# Altium footprint library Maks_lib.PcbLib: 26 footprints (part 2 of 2)
Each footprint in its own frame and in the unit in brackets; x right, y up, seen from the top. Pads: shape width x height; smd on the part's side, far side on the other; paste and mask are expansions set on the pad; w line width, h text height; cw(c..) or ccw(c..) is an arc to the next point about the centre after c.
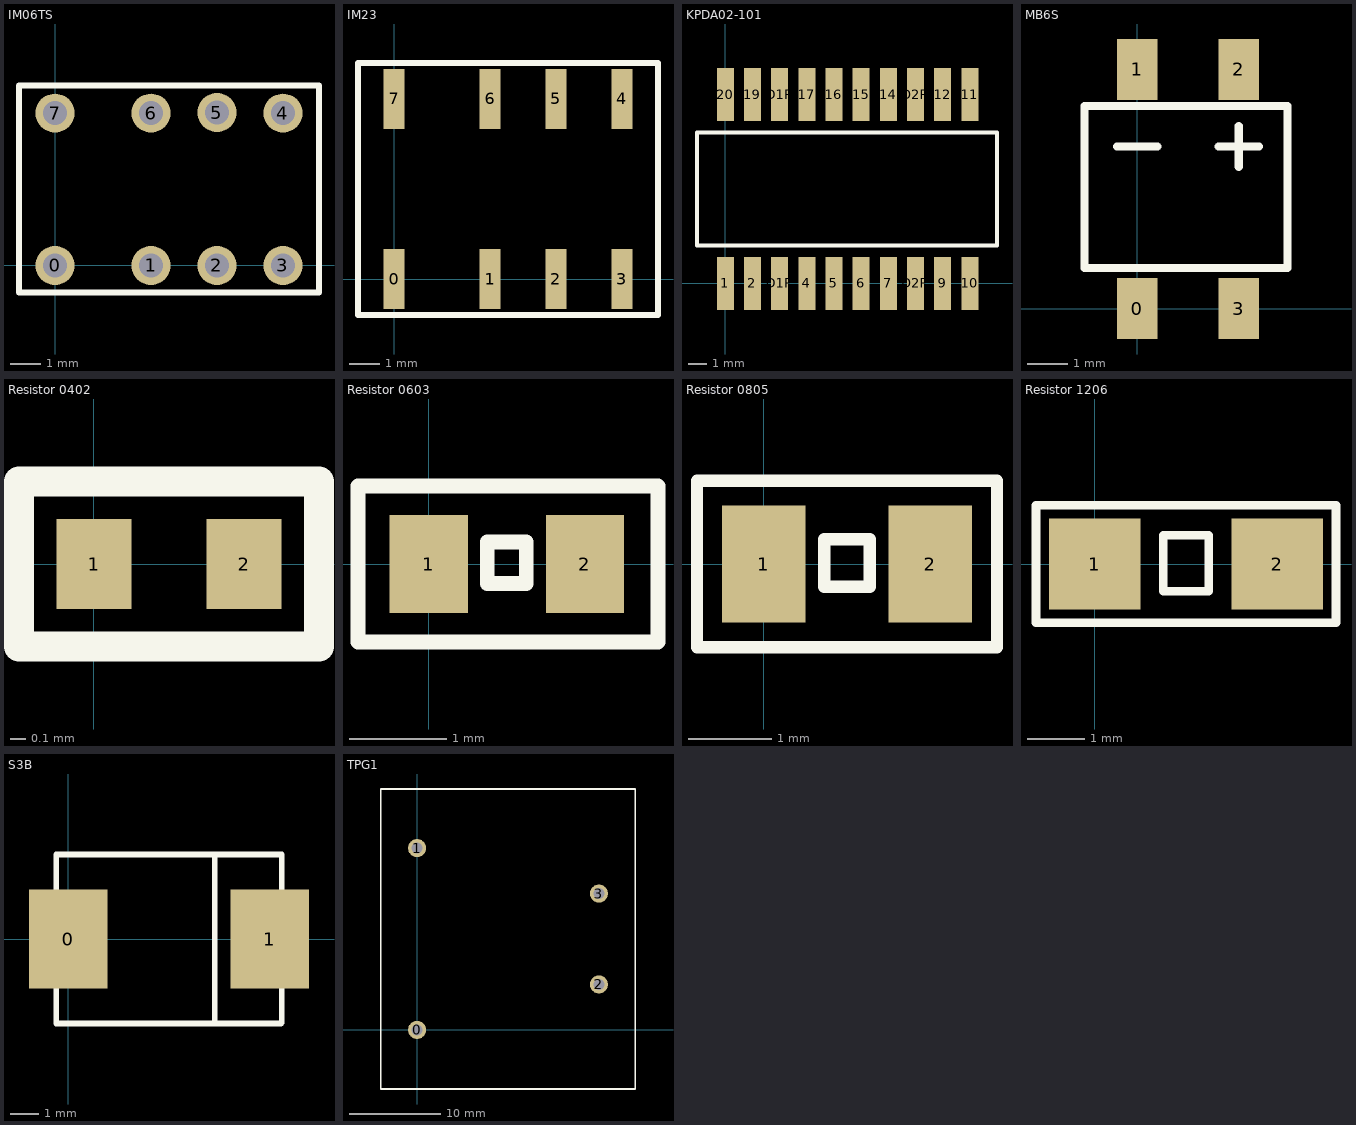
[diagram p1: the footprints below, top view; thin cyan lines are the x and y axes]

## IM06TS [mm]
pads (8):
  round 1.3 hole 0.8: 0(0,0) 1(3.2,0) 2(5.4,0) 3(7.6,0) 4(7.6,5.08) 5(5.4,5.1) 6(3.2,5.08) 7(0,5.08)
Top Overlay:
  lines w0.2: -1.2,-0.9 8.8,-0.9 8.8,6 -1.2,6 -1.2,-0.9

## IM23 [mm]
pads (8):
  rect 0.7x2 smd: 0(0,0) 1(3.2,0) 2(5.4,0) 3(7.6,0) 4(7.6,6) 5(5.4,6) 6(3.2,6) 7(0,6)
Top Overlay:
  lines w0.2: -1.2,-1.2 -1.2,7.2 8.8,7.2 8.8,-1.2 -1.2,-1.2

## KPDA02-101 [mm]
pads (20):
  rect 0.9x2.8 smd: 1(0,0) 2(1.44,0) 4(4.32,0) 5(5.76,0) 6(7.2,0) 7(8.64,0) 9(11.52,0) 10(12.96,0) 11(12.96,10) 12(11.52,10) 14(8.64,10) 15(7.2,10) 16(5.76,10) 17(4.32,10) 19(1.44,10) 20(0,10) D1P(2.88,0) D1P(2.88,10) D2P(10.08,0) D2P(10.08,10)
Top Overlay:
  lines w0.2: -1.5,2 -1.5,8 14.4,8 14.4,2 -1.5,2

## MB6S [mm] "Diode bridge"
pads (4):
  rect 1x1.5 smd: 0(0,0) 1(0,5.9) 2(2.5,5.9) 3(2.5,0)
Top Overlay:
  lines w0.2: -0.5,4 0.5,4 ; 2,4 3,4 ; 2.5,3.5 2.5,4.5 ; -1.3,1 3.7,1 3.7,5 -1.3,5 -1.3,1
3D body: height 2.91, standoff 0, extent -1.275,-0.62 3.675,6.42

## Resistor 0402 [mm]
pads (2):
  rect 0.5x0.6 smd: 1(0,0) 2(1,0)
Top Overlay:
  lines w0.2: -0.5,-0.55 1.5,-0.55 1.5,0.55 -0.5,0.55 -0.5,-0.55
3D body: height 0.46, standoff 0, extent 0,-0.275 0.2,0.275
3D body: height 0.46, standoff 0, extent 0.8,-0.275 1,0.275
3D body: height 0.45, standoff 0, extent 0.025,-0.25 0.975,0.25

## Resistor 0603 [mm]
pads (2):
  rect 0.8x1 smd: 1(0,0) 2(1.6,0)
Top Overlay:
  lines w0.15: -0.725,-0.8 2.35,-0.8 2.35,0.8 -0.725,0.8 -0.725,-0.8 ; 0.6,-0.2 0.6,0.225 1,0.225 1,-0.2 0.6,-0.2
3D body: height 0.46, standoff 0, extent 1.3,-0.45 1.625,0.45
3D body: height 0.46, standoff 0, extent -0.025,-0.45 0.3,0.45
3D body: height 0.45, standoff 0, extent 0,-0.425 1.6,0.425

## Resistor 0805 [mm]
pads (2):
  rect 1x1.4 smd: 1(0,0) 2(2,0)
Top Overlay:
  lines w0.15: -0.8,-1 2.8,-1 2.8,1 -0.8,1 -0.8,-1 ; 0.725,-0.275 0.725,0.3 1.275,0.3 1.275,-0.275 0.725,-0.275
3D body: height 0.4, standoff 0, extent 0.375,-0.625 1.625,0.625
3D body: height 0.41, standoff 0, extent -0.025,-0.65 0.4,0.65
3D body: height 0.41, standoff 0, extent 1.6,-0.65 2.025,0.65

## Resistor 1206 [mm]
pads (2):
  rect 1.6x1.6 smd: 1(0,0) 2(3.2,0)
Top Overlay:
  lines w0.15: -1.025,-1.025 -1.025,1.025 4.225,1.025 4.225,-1.025 -1.025,-1.025 ; 1.2,-0.475 1.2,0.5 2,0.5 2,-0.475 1.2,-0.475
3D body: height 0.5, standoff 0, extent 2.875,-0.794 3.4,0.794
3D body: height 0.5, standoff 0, extent -0.025,-0.775 0.5,0.8
3D body: height 0.5, standoff 0, extent 0.475,-0.75 2.875,0.775

## S3B [mm] "3A surface mount diode"
pads (2):
  rect 2.8x3.5 smd: 0(0,0) 1(7.15,0)
Top Overlay:
  lines w0.2: 5.2,-3 5.2,3 ; -0.425,-3 -0.425,3 3.575,3 7.575,3 7.575,-2.975 7.55,-3 -0.425,-3

## TPG1 [mm] "Transformer"
pads (4):
  round 2 hole 1.2: 0(0,0) 1(0,20) 2(20,5) 3(20,15)
Top Overlay:
  lines w0.2: -4,-6.5 24,-6.5 24,26.5 -4,26.5 -4,-6 -4,-6.5
3D body: height 26.9, standoff -3.4, extent -3.65,-6.15 23.65,26.15